# Altium schematic symbol library MCP23S17-QFN.Schlib: 1 symbol
Pins are listed as number, name and electrical type; pins without a type are passive.

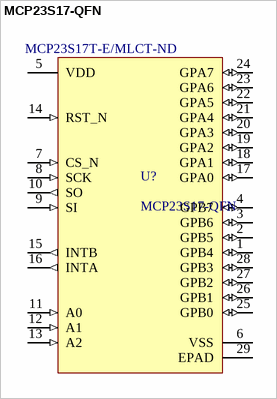
[diagram p0: symbol MCP23S17-QFN]

## MCP23S17-QFN
designator U?  Supplier Part Number 1: MCP23S17T-E/MLCT-ND
16 channel SPI port expander; Supplier 1: Digi-Key
footprint QFN65P600X600X100-29 (QFN + Pitch P + Body With X Body Length X Height - #Pins)
pins: 1 GPB4 (io), 2 GPB5 (io), 3 GPB6 (io), 4 GPB7 (io), 5 VDD (power), 6 VSS (power), 7 CS_N (in), 8 SCK (in), 9 SI (in), 10 SO (out), 11 A0 (in), 12 A1 (in), 13 A2 (in), 14 RST_N (in), 15 INTB (out), 16 INTA (out), 17 GPA0 (io), 18 GPA1 (io), 19 GPA2 (io), 20 GPA3 (io), 21 GPA4 (io), 22 GPA5 (io), 23 GPA6 (io), 24 GPA7 (io), 25 GPB0 (io), 26 GPB1 (io), 27 GPB2 (io), 28 GPB3 (io), 29 EPAD (power)